# Altium footprint library RC0402FR0749R9L.PcbLib: 3 footprints
Each footprint in its own frame and in the unit in brackets; x right, y up, seen from the top. Pads: shape width x height; smd on the part's side, far side on the other; paste and mask are expansions set on the pad; w line width, h text height; cw(c..) or ccw(c..) is an arc to the next point about the centre after c.
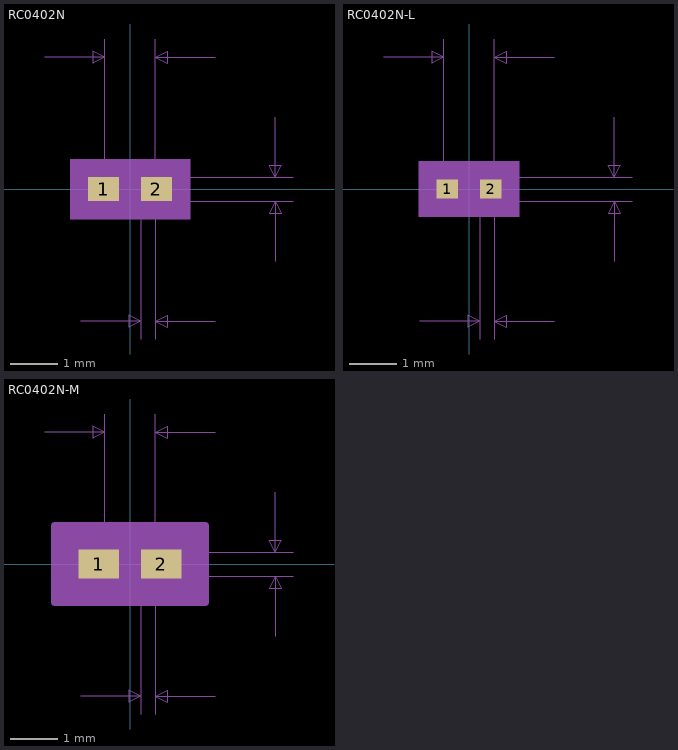
[diagram p0: the footprints below, top view; thin cyan lines are the x and y axes]

## RC0402N [mil]
pads (2):
  rect 26x20 smd: 1(-22,0) 2(22,0)
Mechanical 5:
  region: 50,-25 -50,-25 -50,25 50,25
Mechanical 7:
  lines w1: -71,110 -21,110 ; -41,-110 9,-110 ; -21,0 -21,125 ; 0,-10 136,-10 ; 0,10 136,10 ; 9,-125 9,0 ; 21,-125 21,0 21,125 ; 71,-110 21,-110 ; 71,110 21,110 ; 121,-60 121,-10 ; 121,60 121,10 ; -21,110 -31,115 -31,105 -21,110 ; 9,-110 -1,-105 -1,-115 9,-110 ; 21,-110 31,-105 31,-115 21,-110 ; 21,110 31,115 31,105 21,110 ; 121,-10 116,-20 126,-20 121,-10 ; 121,10 116,20 126,20 121,10
  text "Default Padstyle: RX26Y20D0T" at -350,-280 h50
  text "Alternate 1 Padstyle: OX60Y90D30P" at -412.5,-380 h50
  text "Alternate 2 Padstyle: OX90Y60D30P" at -412.5,-480 h50
  text "0.02in/0.508mm" at 141,-12.5 h25
  text "0.042in/1.067mm" at -93.75,130 h25
  text "0.012in/0.305mm" at -78.75,-155 h25
Mechanical 13:
  lines w1: -21,-10 -21,10 ; -21,-10 -9,-10 -9,10 -21,10 ; -21,-10 21,-10 ; -21,-10 -21,10 ; -21,10 21,10 ; 21,-10 9,-10 9,10 21,10 ; 21,-10 21,10 ; 21,-10 21,10
Mechanical 15:
  region: 45,-20 -45,-20 -45,20 45,20
  lines w6: -45,-20 -45,20 45,20 45,-20 -45,-20
3D body: height 10, standoff 0, extent 0,0 10,10

## RC0402N-L [mil]
pads (2):
  rect 18x16 smd paste+0 mask+0: 1(-18,0) 2(18,0)
Mechanical 5:
  region: 42,-23 -42,-23 -42,23 42,23
Mechanical 7:
  lines w1: -71,110 -21,110 ; -41,-110 9,-110 ; -21,0 -21,125 ; 0,-10 136,-10 ; 0,10 136,10 ; 9,-125 9,0 ; 21,-125 21,0 21,125 ; 71,-110 21,-110 ; 71,110 21,110 ; 121,-60 121,-10 ; 121,60 121,10 ; -21,110 -31,115 -31,105 -21,110 ; 9,-110 -1,-105 -1,-115 9,-110 ; 21,-110 31,-105 31,-115 21,-110 ; 21,110 31,115 31,105 21,110 ; 121,-10 116,-20 126,-20 121,-10 ; 121,10 116,20 126,20 121,10
  text "Default Padstyle: RX18Y16D0T" at -350,-278 h50
  text "Alternate 1 Padstyle: OX60Y90D30P" at -412.5,-378 h50
  text "Alternate 2 Padstyle: OX90Y60D30P" at -412.5,-478 h50
  text "0.02in/0.508mm" at 141,-12.5 h25
  text "0.042in/1.067mm" at -93.75,130 h25
  text "0.012in/0.305mm" at -78.75,-155 h25
Mechanical 13:
  lines w1: -21,-10 -21,10 ; -21,-10 -9,-10 -9,10 -21,10 ; -21,-10 21,-10 ; -21,-10 -21,10 ; -21,10 21,10 ; 21,-10 9,-10 9,10 21,10 ; 21,-10 21,10 ; 21,-10 21,10
Mechanical 15:
  region: 31,-12 -31,-12 -31,12 31,12
  lines w6: -31,-12 -31,12 31,12 31,-12 -31,-12
3D body: height 10, standoff 0, extent 0,0 10,10

## RC0402N-M [mil]
pads (2):
  rect 34x24 smd paste+0 mask+0: 1(-26,0) 2(26,0)
Mechanical 5:
  region: 58,-27 -58,-27 -58,27 58,27
Mechanical 7:
  lines w1: -71,110 -21,110 ; -41,-110 9,-110 ; -21,0 -21,125 ; 0,-10 136,-10 ; 0,10 136,10 ; 9,-125 9,0 ; 21,-125 21,0 21,125 ; 71,-110 21,-110 ; 71,110 21,110 ; 121,-60 121,-10 ; 121,60 121,10 ; -21,110 -31,115 -31,105 -21,110 ; 9,-110 -1,-105 -1,-115 9,-110 ; 21,-110 31,-105 31,-115 21,-110 ; 21,110 31,115 31,105 21,110 ; 121,-10 116,-20 126,-20 121,-10 ; 121,10 116,20 126,20 121,10
  text "Default Padstyle: RX34Y24D0T" at -350,-282 h50
  text "Alternate 1 Padstyle: OX60Y90D30P" at -412.5,-382 h50
  text "Alternate 2 Padstyle: OX90Y60D30P" at -412.5,-482 h50
  text "0.02in/0.508mm" at 141,-12.5 h25
  text "0.042in/1.067mm" at -93.75,130 h25
  text "0.012in/0.305mm" at -78.75,-155 h25
Mechanical 13:
  lines w1: -21,-10 -21,10 ; -21,-10 -9,-10 -9,10 -21,10 ; -21,-10 21,-10 ; -21,-10 -21,10 ; -21,10 21,10 ; 21,-10 9,-10 9,10 21,10 ; 21,-10 21,10 ; 21,-10 21,10
Mechanical 15:
  region: 63,-32 -63,-32 -63,32 63,32
  lines w6: -63,-32 -63,32 63,32 63,-32 -63,-32
3D body: height 10, standoff 0, extent 0,0 10,10